# EAGLE library part OPA1641AID (library OPA1641AID)
Single Sound-Plus High-Performance, JFET-Input Audio OpAmps Source: Datasheet <http://www.ti.com/lit/gpn/opa1641>
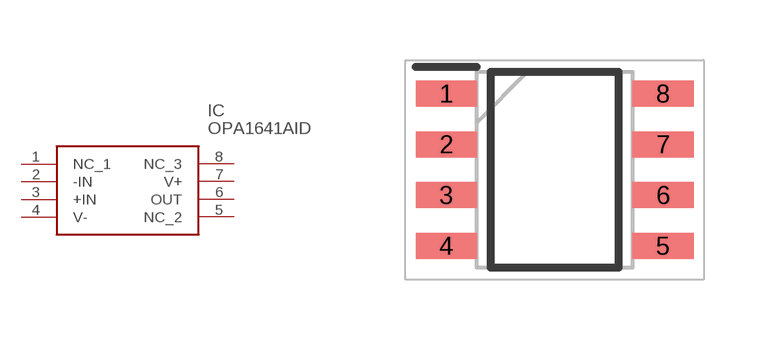
[diagram p0: symbol with the pads of SOIC127P600X175-8N; footprint SOIC127P600X175-8N]

Designator prefix IC

## OPA1641AID (Arrow_Part_Number: OPA1641AID; Arrow_Price-Stock: https://www.arrow.com/en/products/opa1641aid/texas-instruments.html?utm_currency=USD&region=europe; Description: Single Sound-Plus High-Performance, JFET-Input Audio OpAmps; Height: 1.75mm; Manufacturer_Name: Texas Instruments; Manufacturer_Part_Number: OPA1641AID; Mouser_Part_Number: 595-OPA1641AID; Mouser_Price-Stock: https://www.mouser.co.uk/ProductDetail/Texas-Instruments/OPA1641AID?qs=%2Fqzd9s%252BcLd4V%252BdtTTJDooA%3D%3D)  [SOIC127P600X175-8N]
1  NC_1
2  -IN
3  +IN
4  V-
5  NC_2
6  OUT
7  V+
8  NC_3

## Footprint SOIC127P600X175-8N (pad centres in mm)
D0008A-111
smd 1.528 x 0.65: 1 -2.711,1.905; 2 -2.711,0.635; 3 -2.711,-0.635; 4 -2.711,-1.905; 5 2.711,-1.905; 6 2.711,-0.635; 7 2.711,0.635; 8 2.711,1.905